# Altium integrated library Relay.IntLib: 4 symbols
Pins are listed as number, name and electrical type; pins without a type are passive.

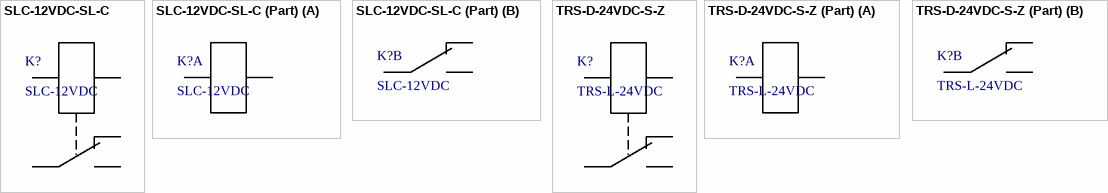
[diagram p0: symbols SLC-12VDC-SL-C to TRS-D-24VDC-S-Z (Part)]

## SLC-12VDC-SL-C
designator K?, comment SLC-12VDC
Relay 12VDC, 160Om, 75mA, Imax-30A, Umax-250VAC; Manufacture: SONGLE; Model: SLC-12VDC-SL-C; Name: Реле; Case: SLC-12VDC-SL-C; HelpURL: https://static.chipdip.ru/lib/961/DOC005961031.pdf; Value: SLC-12VDC
footprint SLC-12VDC-SL-C
pins: 1, 2, 3, 4, 5

## SLC-12VDC-SL-C (Part)
designator K?, comment SLC-12VDC
Relay 12VDC, 160Om, 75mA, Imax-30A, Umax-250VAC; Manufacture: SONGLE; Model: SLC-12VDC-SL-C; Name: Реле; Case: SLC-12VDC-SL-C; HelpURL: https://static.chipdip.ru/lib/961/DOC005961031.pdf; Value: SLC-12VDC
footprint SLC-12VDC-SL-C
part A pins: 1, 2
part B pins: 3, 4, 5

## TRS-D-24VDC-S-Z
designator K?, comment TRS-L-24VDC
Relay 24VDC, 720Om, 33.3mA, Imax-40A, Pmax-420W; Manufacture: Tianbo Relay; Model: TRS-L-24VDC-S-Z; Name: Реле; Case: TRS-L-24VDC-S-Z; HelpURL: https://www.chipdip.ru/product0/8003918548; Value: TRS-L-24VDC
footprint TRS-L-24VDS-S-Z
pins: 1, 2, 3, 4, 5

## TRS-D-24VDC-S-Z (Part)
designator K?, comment TRS-L-24VDC
Relay 24VDC, 720Om, 33.3mA, Imax-40A, Pmax-420W; Manufacture: Tianbo Relay; Model: TRS-L-24VDC-S-Z; Name: Реле; Case: TRS-L-24VDC-S-Z; HelpURL: https://www.chipdip.ru/product0/8003918548; Value: TRS-L-24VDC
footprint TRS-L-24VDS-S-Z
part A pins: 1, 2
part B pins: 3, 4, 5